# Altium schematic symbol library CNY70.SchLib: 1 symbol
Pins are listed as number, name and electrical type; pins without a type are passive.

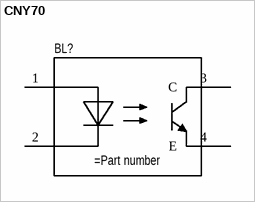
[diagram p0: symbol CNY70]

## CNY70
designator BL?
pins: 1 A, 2 C, 3 C, 4 E